# Altium schematic symbol library WE-VS.SchLib: 41 symbols
Pins are listed as number, name and electrical type; pins without a type are passive.

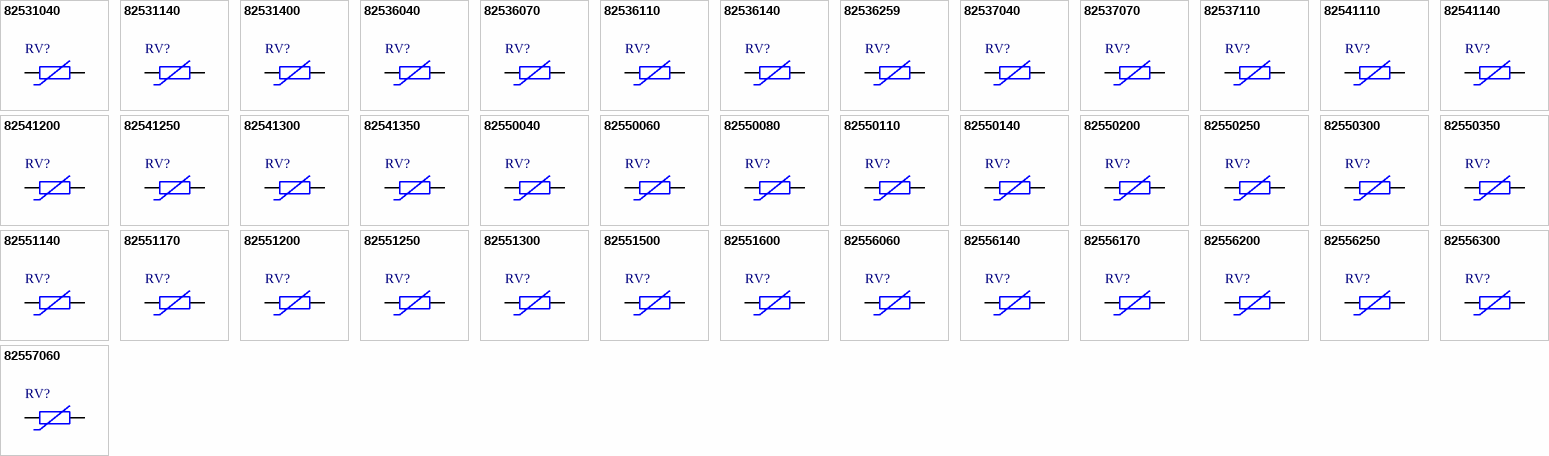
[diagram p0: symbols 82531040 to 82557060]

## 82531040
designator RV?, comment 4VAC, 5.5VDC  (value not drawn)
WE-VS SMT Varistor, size 1206, 4VAC, 5.5VDC; Manufacturer Part Number: 82531040; Manufacturer: Wurth Elektronik; Case/Size Code: 1206; Clamping Voltage: 25V; Energy Absorption: 0.3J; Operating Voltage (AC): 4V; Operating Voltage (DC): 5.5V; (Reverse) Breakdown Voltage: 8V; (Reverse) Peak Pulse Current: 150A; Category: Surge Protection; Match Code: WE-VS; ComponentLink1Description: Website Link; ComponentLink1URL: https://www.we-online.com/redexpert/article/82531040?ad; ComponentLink2Description: Datasheet Link; ComponentLink2URL: https://www.we-online.com/redexpert/spec/82531040?ad; Mount: Surface Mount; Min Operating Temperature: -40°C; Max Operating Temperature: 85°C; Packaging: Tape and Reel; Length: 3.2mm; Width: 1.6mm; Height: 1.7mm
footprint WE-VS_1206
pins: 1, 2

## 82531140
designator RV?, comment 14VAC, 16VDC  (value not drawn)
WE-VS SMT Varistor, size 1206, 14VAC, 16VDC; Manufacturer Part Number: 82531140; Manufacturer: Wurth Elektronik; Case/Size Code: 1206; Clamping Voltage: 35V; Energy Absorption: 0.4J; Operating Voltage (AC): 14V; Operating Voltage (DC): 16V; (Reverse) Breakdown Voltage: 22V; (Reverse) Peak Pulse Current: 150A; Category: Surge Protection; Match Code: WE-VS; ComponentLink1Description: Website Link; ComponentLink1URL: https://www.we-online.com/redexpert/article/82531140?ad; ComponentLink2Description: Datasheet Link; ComponentLink2URL: https://www.we-online.com/redexpert/spec/82531140?ad; Mount: Surface Mount; Min Operating Temperature: -40°C; Max Operating Temperature: 85°C; Packaging: Tape and Reel; Length: 3.2mm; Width: 1.6mm; Height: 1.7mm
footprint WE-VS_1206
pins: 1, 2

## 82531400
designator RV?, comment 40VAC, 56VDC  (value not drawn)
WE-VS SMT Varistor, size 1206, 40VAC, 56VDC; Manufacturer Part Number: 82531400; Manufacturer: Wurth Elektronik; Case/Size Code: 1206; Clamping Voltage: 110V; Energy Absorption: 1J; Operating Voltage (AC): 40V; Operating Voltage (DC): 56V; (Reverse) Breakdown Voltage: 70V; (Reverse) Peak Pulse Current: 200A; Category: Surge Protection; Match Code: WE-VS; ComponentLink1Description: Website Link; ComponentLink1URL: https://www.we-online.com/redexpert/article/82531400?ad; ComponentLink2Description: Datasheet Link; ComponentLink2URL: https://www.we-online.com/redexpert/spec/82531400?ad; Mount: Surface Mount; Min Operating Temperature: -40°C; Max Operating Temperature: 85°C; Packaging: Tape and Reel; Length: 3.2mm; Width: 1.6mm; Height: 1.7mm
footprint WE-VS_1206
pins: 1, 2

## 82536040
designator RV?, comment 4VAC, 5.5VDC  (value not drawn)
WE-VS SMT Varistor, size 0603, 4VAC, 5.5VDC; Manufacturer Part Number: 82536040; Manufacturer: Wurth Elektronik; Case/Size Code: 0603; Clamping Voltage: 21V; Energy Absorption: 0.1J; Operating Voltage (AC): 4V; Operating Voltage (DC): 5.5V; (Reverse) Breakdown Voltage: 8V; (Reverse) Peak Pulse Current: 20A; Category: Surge Protection; Match Code: WE-VS; ComponentLink1Description: Website Link; ComponentLink1URL: https://www.we-online.com/redexpert/article/82536040?ad; ComponentLink2Description: Datasheet Link; ComponentLink2URL: https://www.we-online.com/redexpert/spec/82536040?ad; Mount: Surface Mount; Min Operating Temperature: -40°C; Max Operating Temperature: 85°C; Packaging: Tape and Reel; Length: 1.6mm; Width: 0.8mm; Height: 0.8mm
footprint WE-VS_0603
pins: 1, 2

## 82536070
designator RV?, comment 6VAC, 9VDC  (value not drawn)
WE-VS SMT Varistor, size 0603, 6VAC, 9VDC; Manufacturer Part Number: 82536070; Manufacturer: Wurth Elektronik; Case/Size Code: 0603; Clamping Voltage: 30V; Energy Absorption: 0.1J; Operating Voltage (AC): 6V; Operating Voltage (DC): 9V; (Reverse) Breakdown Voltage: 13.5V; (Reverse) Peak Pulse Current: 30A; Category: Surge Protection; Match Code: WE-VS; ComponentLink1Description: Website Link; ComponentLink1URL: https://www.we-online.com/redexpert/article/82536070?ad; ComponentLink2Description: Datasheet Link; ComponentLink2URL: https://www.we-online.com/redexpert/spec/82536070?ad; Mount: Surface Mount; Min Operating Temperature: -40°C; Max Operating Temperature: 85°C; Packaging: Tape and Reel; Length: 1.6mm; Width: 0.8mm; Height: 0.8mm
footprint WE-VS_0603
pins: 1, 2

## 82536110
designator RV?, comment 11VAC, 14VDC  (value not drawn)
WE-VS SMT Varistor, size 0603, 11VAC, 14VDC; Manufacturer Part Number: 82536110; Manufacturer: Wurth Elektronik; Case/Size Code: 0603; Clamping Voltage: 38V; Energy Absorption: 0.1J; Operating Voltage (AC): 11V; Operating Voltage (DC): 14V; (Reverse) Breakdown Voltage: 18V; (Reverse) Peak Pulse Current: 30A; Category: Surge Protection; Match Code: WE-VS; ComponentLink1Description: Website Link; ComponentLink1URL: https://www.we-online.com/redexpert/article/82536110?ad; ComponentLink2Description: Datasheet Link; ComponentLink2URL: https://www.we-online.com/redexpert/spec/82536110?ad; Mount: Surface Mount; Min Operating Temperature: -40°C; Max Operating Temperature: 85°C; Packaging: Tape and Reel; Length: 1.6mm; Width: 0.8mm; Height: 0.8mm
footprint WE-VS_0603
pins: 1, 2

## 82536140
designator RV?, comment 14VAC, 18VDC  (value not drawn)
WE-VS SMT Varistor, size 0603, 14VAC, 18VDC; Manufacturer Part Number: 82536140; Manufacturer: Wurth Elektronik; Case/Size Code: 0603; Clamping Voltage: 45V; Energy Absorption: 0.2J; Operating Voltage (AC): 14V; Operating Voltage (DC): 18V; (Reverse) Breakdown Voltage: 25V; (Reverse) Peak Pulse Current: 30A; Category: Surge Protection; Match Code: WE-VS; ComponentLink1Description: Website Link; ComponentLink1URL: https://www.we-online.com/redexpert/article/82536140?ad; ComponentLink2Description: Datasheet Link; ComponentLink2URL: https://www.we-online.com/redexpert/spec/82536140?ad; Mount: Surface Mount; Min Operating Temperature: -40°C; Max Operating Temperature: 85°C; Packaging: Tape and Reel; Length: 1.6mm; Width: 0.8mm; Height: 0.8mm
footprint WE-VS_0603
pins: 1, 2

## 82536259
designator RV?, comment 2.5VAC, 3.3VDC  (value not drawn)
WE-VS SMT Varistor, size 0603, 2.5VAC, 3.3VDC; Manufacturer Part Number: 82536259; Manufacturer: Wurth Elektronik; Case/Size Code: 0603; Clamping Voltage: 13V; Energy Absorption: 0.1J; Operating Voltage (AC): 2.5V; Operating Voltage (DC): 3.3V; (Reverse) Breakdown Voltage: 5.5V; (Reverse) Peak Pulse Current: 30A; Category: Surge Protection; Match Code: WE-VS; ComponentLink1Description: Website Link; ComponentLink1URL: https://www.we-online.com/redexpert/article/82536259?ad; ComponentLink2Description: Datasheet Link; ComponentLink2URL: https://www.we-online.com/redexpert/spec/82536259?ad; Mount: Surface Mount; Min Operating Temperature: -40°C; Max Operating Temperature: 85°C; Packaging: Tape and Reel; Length: 1.6mm; Width: 0.8mm; Height: 0.8mm
footprint WE-VS_0603
pins: 1, 2

## 82537040
designator RV?, comment 4VAC, 5.5VDC  (value not drawn)
WE-VS SMT Varistor, size 0402, 4VAC, 5.5VDC; Manufacturer Part Number: 82537040; Manufacturer: Wurth Elektronik; Case/Size Code: 0402; Clamping Voltage: 21V; Energy Absorption: 0.04J; Operating Voltage (AC): 4V; Operating Voltage (DC): 5.5V; (Reverse) Breakdown Voltage: 8V; (Reverse) Peak Pulse Current: 20A; Category: Surge Protection; Match Code: WE-VS; ComponentLink1Description: Website Link; ComponentLink1URL: https://www.we-online.com/redexpert/article/82537040?ad; ComponentLink2Description: Datasheet Link; ComponentLink2URL: https://www.we-online.com/redexpert/spec/82537040?ad; Mount: Surface Mount; Min Operating Temperature: -40°C; Max Operating Temperature: 85°C; Packaging: Tape and Reel; Length: 0.96mm; Width: 0.5mm; Height: 0.48mm
footprint WE-VS_0402
pins: 1, 2

## 82537070
designator RV?, comment 8VAC, 11VDC  (value not drawn)
WE-VS SMT Varistor, size 0402, 8VAC, 11VDC; Manufacturer Part Number: 82537070; Manufacturer: Wurth Elektronik; Case/Size Code: 0402; Clamping Voltage: 35V; Energy Absorption: 0.05J; Operating Voltage (AC): 8V; Operating Voltage (DC): 11V; (Reverse) Breakdown Voltage: 12.5V; (Reverse) Peak Pulse Current: 20A; Category: Surge Protection; Match Code: WE-VS; ComponentLink1Description: Website Link; ComponentLink1URL: https://www.we-online.com/redexpert/article/82537070?ad; ComponentLink2Description: Datasheet Link; ComponentLink2URL: https://www.we-online.com/redexpert/spec/82537070?ad; Mount: Surface Mount; Min Operating Temperature: -40°C; Max Operating Temperature: 85°C; Packaging: Tape and Reel; Length: 0.96mm; Width: 0.5mm; Height: 0.48mm
footprint WE-VS_0402
pins: 1, 2

## 82537110
designator RV?, comment 11VAC, 14VDC  (value not drawn)
WE-VS SMT Varistor, size 0402, 11VAC, 14VDC; Manufacturer Part Number: 82537110; Manufacturer: Wurth Elektronik; Case/Size Code: 0402; Clamping Voltage: 44V; Energy Absorption: 0.02J; Operating Voltage (AC): 11V; Operating Voltage (DC): 14V; (Reverse) Breakdown Voltage: 18V; (Reverse) Peak Pulse Current: 10A; Category: Surge Protection; Match Code: WE-VS; ComponentLink1Description: Website Link; ComponentLink1URL: https://www.we-online.com/redexpert/article/82537110?ad; ComponentLink2Description: Datasheet Link; ComponentLink2URL: https://www.we-online.com/redexpert/spec/82537110?ad; Mount: Surface Mount; Min Operating Temperature: -40°C; Max Operating Temperature: 85°C; Packaging: Tape and Reel; Length: 0.96mm; Width: 0.5mm; Height: 0.48mm
footprint WE-VS_0402
pins: 1, 2

## 82541110
designator RV?, comment 11VAC, 14VDC  (value not drawn)
WE-VS SMT Varistor, size 1206, 11VAC, 14VDC; Manufacturer Part Number: 82541110; Manufacturer: Wurth Elektronik; Case/Size Code: 1206; Clamping Voltage: 36V; Energy Absorption: 0.5J; Operating Voltage (AC): 11V; Operating Voltage (DC): 14V; (Reverse) Breakdown Voltage: 18V; (Reverse) Peak Pulse Current: 200A; Category: Surge Protection; Match Code: WE-VS; ComponentLink1Description: Website Link; ComponentLink1URL: https://www.we-online.com/redexpert/article/82541110?ad; ComponentLink2Description: Datasheet Link; ComponentLink2URL: https://www.we-online.com/redexpert/spec/82541110?ad; Mount: Surface Mount; Min Operating Temperature: -40°C; Max Operating Temperature: 85°C; Packaging: Tape and Reel; Length: 3.2mm; Width: 1.6mm; Height: 1.7mm
footprint WE-VS_1206
pins: 1, 2

## 82541140
designator RV?, comment 14VAC, 16VDC  (value not drawn)
WE-VS SMT Varistor, size 1206, 14VAC, 16VDC; Manufacturer Part Number: 82541140; Manufacturer: Wurth Elektronik; Case/Size Code: 1206; Clamping Voltage: 35V; Energy Absorption: 0.6J; Operating Voltage (AC): 14V; Operating Voltage (DC): 16V; (Reverse) Breakdown Voltage: 24V; (Reverse) Peak Pulse Current: 200A; Category: Surge Protection; Match Code: WE-VS; ComponentLink1Description: Website Link; ComponentLink1URL: https://www.we-online.com/redexpert/article/82541140?ad; ComponentLink2Description: Datasheet Link; ComponentLink2URL: https://www.we-online.com/redexpert/spec/82541140?ad; Mount: Surface Mount; Min Operating Temperature: -40°C; Max Operating Temperature: 85°C; Packaging: Tape and Reel; Length: 3.2mm; Width: 1.6mm; Height: 1.7mm
footprint WE-VS_1206
pins: 1, 2

## 82541200
designator RV?, comment 20VAC, 26VDC  (value not drawn)
WE-VS SMT Varistor, size 1206, 20VAC, 26VDC; Manufacturer Part Number: 82541200; Manufacturer: Wurth Elektronik; Case/Size Code: 1206; Clamping Voltage: 60V; Energy Absorption: 0.7J; Operating Voltage (AC): 20V; Operating Voltage (DC): 26V; (Reverse) Breakdown Voltage: 33V; (Reverse) Peak Pulse Current: 200A; Category: Surge Protection; Match Code: WE-VS; ComponentLink1Description: Website Link; ComponentLink1URL: https://www.we-online.com/redexpert/article/82541200?ad; ComponentLink2Description: Datasheet Link; ComponentLink2URL: https://www.we-online.com/redexpert/spec/82541200?ad; Mount: Surface Mount; Min Operating Temperature: -40°C; Max Operating Temperature: 85°C; Packaging: Tape and Reel; Length: 3.2mm; Width: 1.6mm; Height: 1.7mm
footprint WE-VS_1206
pins: 1, 2

## 82541250
designator RV?, comment 25VAC, 30VDC  (value not drawn)
WE-VS SMT Varistor, size 1206, 25VAC, 30VDC; Manufacturer Part Number: 82541250; Manufacturer: Wurth Elektronik; Case/Size Code: 1206; Clamping Voltage: 72V; Energy Absorption: 1J; Operating Voltage (AC): 25V; Operating Voltage (DC): 30V; (Reverse) Breakdown Voltage: 39V; (Reverse) Peak Pulse Current: 200A; Category: Surge Protection; Match Code: WE-VS; ComponentLink1Description: Website Link; ComponentLink1URL: https://www.we-online.com/redexpert/article/82541250?ad; ComponentLink2Description: Datasheet Link; ComponentLink2URL: https://www.we-online.com/redexpert/spec/82541250?ad; Mount: Surface Mount; Min Operating Temperature: -40°C; Max Operating Temperature: 85°C; Packaging: Tape and Reel; Length: 3.2mm; Width: 1.6mm; Height: 1.7mm
footprint WE-VS_1206
pins: 1, 2

## 82541300
designator RV?, comment 30VAC, 38VDC  (value not drawn)
WE-VS SMT Varistor, size 1206, 30VAC, 38VDC; Manufacturer Part Number: 82541300; Manufacturer: Wurth Elektronik; Case/Size Code: 1206; Clamping Voltage: 85V; Energy Absorption: 1.1J; Operating Voltage (AC): 30V; Operating Voltage (DC): 38V; (Reverse) Breakdown Voltage: 47V; (Reverse) Peak Pulse Current: 200A; Category: Surge Protection; Match Code: WE-VS; ComponentLink1Description: Website Link; ComponentLink1URL: https://www.we-online.com/redexpert/article/82541300?ad; ComponentLink2Description: Datasheet Link; ComponentLink2URL: https://www.we-online.com/redexpert/spec/82541300?ad; Mount: Surface Mount; Min Operating Temperature: -40°C; Max Operating Temperature: 85°C; Packaging: Tape and Reel; Length: 3.2mm; Width: 1.6mm; Height: 1.7mm
footprint WE-VS_1206
pins: 1, 2

## 82541350
designator RV?, comment 35VAC, 45VDC  (value not drawn)
WE-VS SMT Varistor, size 1206, 35VAC, 45VDC; Manufacturer Part Number: 82541350; Manufacturer: Wurth Elektronik; Case/Size Code: 1206; Clamping Voltage: 108V; Energy Absorption: 1.1J; Operating Voltage (AC): 35V; Operating Voltage (DC): 45V; (Reverse) Breakdown Voltage: 56V; (Reverse) Peak Pulse Current: 200A; Category: Surge Protection; Match Code: WE-VS; ComponentLink1Description: Website Link; ComponentLink1URL: https://www.we-online.com/redexpert/article/82541350?ad; ComponentLink2Description: Datasheet Link; ComponentLink2URL: https://www.we-online.com/redexpert/spec/82541350?ad; Mount: Surface Mount; Min Operating Temperature: -40°C; Max Operating Temperature: 85°C; Packaging: Tape and Reel; Length: 3.2mm; Width: 1.6mm; Height: 1.7mm
footprint WE-VS_1206
pins: 1, 2

## 82550040
designator RV?, comment 4VAC, 5.5VDC  (value not drawn)
WE-VS SMT Varistor, size 0805, 4VAC, 5.5VDC; Manufacturer Part Number: 82550040; Manufacturer: Wurth Elektronik; Case/Size Code: 0805; Clamping Voltage: 22V; Energy Absorption: 0.1J; Operating Voltage (AC): 4V; Operating Voltage (DC): 5.5V; (Reverse) Breakdown Voltage: 8V; (Reverse) Peak Pulse Current: 80A; Category: Surge Protection; Match Code: WE-VS; ComponentLink1Description: Website Link; ComponentLink1URL: https://www.we-online.com/redexpert/article/82550040?ad; ComponentLink2Description: Datasheet Link; ComponentLink2URL: https://www.we-online.com/redexpert/spec/82550040?ad; Mount: Surface Mount; Min Operating Temperature: -40°C; Max Operating Temperature: 85°C; Packaging: Tape and Reel; Length: 2mm; Width: 1.25mm; Height: 0.9mm
footprint WE-VS_0805
pins: 1, 2

## 82550060
designator RV?, comment 6VAC, 9VDC  (value not drawn)
WE-VS SMT Varistor, size 0805, 6VAC, 9VDC; Manufacturer Part Number: 82550060; Manufacturer: Wurth Elektronik; Case/Size Code: 0805; Clamping Voltage: 30V; Energy Absorption: 0.2J; Operating Voltage (AC): 6V; Operating Voltage (DC): 9V; (Reverse) Breakdown Voltage: 12V; (Reverse) Peak Pulse Current: 80A; Category: Surge Protection; Match Code: WE-VS; ComponentLink1Description: Website Link; ComponentLink1URL: https://www.we-online.com/redexpert/article/82550060?ad; ComponentLink2Description: Datasheet Link; ComponentLink2URL: https://www.we-online.com/redexpert/spec/82550060?ad; Mount: Surface Mount; Min Operating Temperature: -40°C; Max Operating Temperature: 85°C; Packaging: Tape and Reel; Length: 2mm; Width: 1.25mm; Height: 0.9mm
footprint WE-VS_0805
pins: 1, 2

## 82550080
designator RV?, comment 8VAC, 11VDC  (value not drawn)
WE-VS SMT Varistor, size 0805, 8VAC, 11VDC; Manufacturer Part Number: 82550080; Manufacturer: Wurth Elektronik; Case/Size Code: 0805; Clamping Voltage: 45V; Energy Absorption: 0.3J; Operating Voltage (AC): 8V; Operating Voltage (DC): 11V; (Reverse) Breakdown Voltage: 15V; (Reverse) Peak Pulse Current: 100A; Category: Surge Protection; Match Code: WE-VS; ComponentLink1Description: Website Link; ComponentLink1URL: https://www.we-online.com/redexpert/article/82550080?ad; ComponentLink2Description: Datasheet Link; ComponentLink2URL: https://www.we-online.com/redexpert/spec/82550080?ad; Mount: Surface Mount; Min Operating Temperature: -40°C; Max Operating Temperature: 85°C; Packaging: Tape and Reel; Length: 2mm; Width: 1.25mm; Height: 0.9mm
footprint WE-VS_0805
pins: 1, 2

## 82550110
designator RV?, comment 11VAC, 14VDC  (value not drawn)
WE-VS SMT Varistor, size 0805, 11VAC, 14VDC; Manufacturer Part Number: 82550110; Manufacturer: Wurth Elektronik; Case/Size Code: 0805; Clamping Voltage: 38V; Energy Absorption: 0.1J; Operating Voltage (AC): 11V; Operating Voltage (DC): 14V; (Reverse) Breakdown Voltage: 18V; (Reverse) Peak Pulse Current: 100A; Category: Surge Protection; Match Code: WE-VS; ComponentLink1Description: Website Link; ComponentLink1URL: https://www.we-online.com/redexpert/article/82550110?ad; ComponentLink2Description: Datasheet Link; ComponentLink2URL: https://www.we-online.com/redexpert/spec/82550110?ad; Mount: Surface Mount; Min Operating Temperature: -40°C; Max Operating Temperature: 85°C; Packaging: Tape and Reel; Length: 2mm; Width: 1.25mm; Height: 0.9mm
footprint WE-VS_0805
pins: 1, 2

## 82550140
designator RV?, comment 14VAC, 18VDC  (value not drawn)
WE-VS SMT Varistor, size 0805, 14VAC, 18VDC; Manufacturer Part Number: 82550140; Manufacturer: Wurth Elektronik; Case/Size Code: 0805; Clamping Voltage: 44V; Energy Absorption: 0.3J; Operating Voltage (AC): 14V; Operating Voltage (DC): 18V; (Reverse) Breakdown Voltage: 24V; (Reverse) Peak Pulse Current: 120A; Category: Surge Protection; Match Code: WE-VS; ComponentLink1Description: Website Link; ComponentLink1URL: https://www.we-online.com/redexpert/article/82550140?ad; ComponentLink2Description: Datasheet Link; ComponentLink2URL: https://www.we-online.com/redexpert/spec/82550140?ad; Mount: Surface Mount; Min Operating Temperature: -40°C; Max Operating Temperature: 85°C; Packaging: Tape and Reel; Length: 2mm; Width: 1.25mm; Height: 0.9mm
footprint WE-VS_0805
pins: 1, 2

## 82550200
designator RV?, comment 20VAC, 26VDC  (value not drawn)
WE-VS SMT Varistor, size 0805, 20VAC, 26VDC; Manufacturer Part Number: 82550200; Manufacturer: Wurth Elektronik; Case/Size Code: 0805; Clamping Voltage: 54V; Energy Absorption: 0.4J; Operating Voltage (AC): 20V; Operating Voltage (DC): 26V; (Reverse) Breakdown Voltage: 33V; (Reverse) Peak Pulse Current: 100A; Category: Surge Protection; Match Code: WE-VS; ComponentLink1Description: Website Link; ComponentLink1URL: https://www.we-online.com/redexpert/article/82550200?ad; ComponentLink2Description: Datasheet Link; ComponentLink2URL: https://www.we-online.com/redexpert/spec/82550200?ad; Mount: Surface Mount; Min Operating Temperature: -40°C; Max Operating Temperature: 85°C; Packaging: Tape and Reel; Length: 2mm; Width: 1.25mm; Height: 0.9mm
footprint WE-VS_0805
pins: 1, 2

## 82550250
designator RV?, comment 25VAC, 30VDC  (value not drawn)
WE-VS SMT Varistor, size 0805, 25VAC, 30VDC; Manufacturer Part Number: 82550250; Manufacturer: Wurth Elektronik; Case/Size Code: 0805; Clamping Voltage: 71V; Energy Absorption: 0.3J; Operating Voltage (AC): 25V; Operating Voltage (DC): 30V; (Reverse) Breakdown Voltage: 39V; (Reverse) Peak Pulse Current: 100A; Category: Surge Protection; Match Code: WE-VS; ComponentLink1Description: Website Link; ComponentLink1URL: https://www.we-online.com/redexpert/article/82550250?ad; ComponentLink2Description: Datasheet Link; ComponentLink2URL: https://www.we-online.com/redexpert/spec/82550250?ad; Mount: Surface Mount; Min Operating Temperature: -40°C; Max Operating Temperature: 85°C; Packaging: Tape and Reel; Length: 2mm; Width: 1.25mm; Height: 0.9mm
footprint WE-VS_0805
pins: 1, 2

## 82550300
designator RV?, comment 30VAC, 38VDC  (value not drawn)
WE-VS SMT Varistor, size 0805, 30VAC, 38VDC; Manufacturer Part Number: 82550300; Manufacturer: Wurth Elektronik; Case/Size Code: 0805; Clamping Voltage: 81V; Energy Absorption: 0.3J; Operating Voltage (AC): 30V; Operating Voltage (DC): 38V; (Reverse) Breakdown Voltage: 47V; (Reverse) Peak Pulse Current: 100A; Category: Surge Protection; Match Code: WE-VS; ComponentLink1Description: Website Link; ComponentLink1URL: https://www.we-online.com/redexpert/article/82550300?ad; ComponentLink2Description: Datasheet Link; ComponentLink2URL: https://www.we-online.com/redexpert/spec/82550300?ad; Mount: Surface Mount; Min Operating Temperature: -40°C; Max Operating Temperature: 85°C; Packaging: Tape and Reel; Length: 2mm; Width: 1.25mm; Height: 0.9mm
footprint WE-VS_0805
pins: 1, 2

## 82550350
designator RV?, comment 35VAC, 45VDC  (value not drawn)
WE-VS SMT Varistor, size 0805, 35VAC, 45VDC; Manufacturer Part Number: 82550350; Manufacturer: Wurth Elektronik; Case/Size Code: 0805; Clamping Voltage: 90V; Energy Absorption: 0.1J; Operating Voltage (AC): 35V; Operating Voltage (DC): 45V; (Reverse) Breakdown Voltage: 56V; (Reverse) Peak Pulse Current: 80A; Category: Surge Protection; Match Code: WE-VS; ComponentLink1Description: Website Link; ComponentLink1URL: https://www.we-online.com/redexpert/article/82550350?ad; ComponentLink2Description: Datasheet Link; ComponentLink2URL: https://www.we-online.com/redexpert/spec/82550350?ad; Mount: Surface Mount; Min Operating Temperature: -40°C; Max Operating Temperature: 85°C; Packaging: Tape and Reel; Length: 2mm; Width: 1.25mm; Height: 0.9mm
footprint WE-VS_0805
pins: 1, 2

## 82551140
designator RV?, comment 14VAC, 16VDC  (value not drawn)
WE-VS SMT Varistor, size 1206, 14VAC, 16VDC; Manufacturer Part Number: 82551140; Manufacturer: Wurth Elektronik; Case/Size Code: 1206; Clamping Voltage: 35V; Energy Absorption: 0.4J; Operating Voltage (AC): 14V; Operating Voltage (DC): 16V; (Reverse) Breakdown Voltage: 24V; (Reverse) Peak Pulse Current: 150A; Category: Surge Protection; Match Code: WE-VS; ComponentLink1Description: Website Link; ComponentLink1URL: https://www.we-online.com/redexpert/article/82551140?ad; ComponentLink2Description: Datasheet Link; ComponentLink2URL: https://www.we-online.com/redexpert/spec/82551140?ad; Mount: Surface Mount; Min Operating Temperature: -40°C; Max Operating Temperature: 85°C; Packaging: Tape and Reel; Length: 3.2mm; Width: 1.6mm; Height: 1.7mm
footprint WE-VS_1206
pins: 1, 2

## 82551170
designator RV?, comment 17VAC, 22VDC  (value not drawn)
WE-VS SMT Varistor, size 1206, 17VAC, 22VDC; Manufacturer Part Number: 82551170; Manufacturer: Wurth Elektronik; Case/Size Code: 1206; Clamping Voltage: 48V; Energy Absorption: 0.3J; Operating Voltage (AC): 17V; Operating Voltage (DC): 22V; (Reverse) Breakdown Voltage: 27V; (Reverse) Peak Pulse Current: 200A; Category: Surge Protection; Match Code: WE-VS; ComponentLink1Description: Website Link; ComponentLink1URL: https://www.we-online.com/redexpert/article/82551170?ad; ComponentLink2Description: Datasheet Link; ComponentLink2URL: https://www.we-online.com/redexpert/spec/82551170?ad; Mount: Surface Mount; Min Operating Temperature: -40°C; Max Operating Temperature: 85°C; Packaging: Tape and Reel; Length: 3.2mm; Width: 1.6mm; Height: 1.7mm
footprint WE-VS_1206
pins: 1, 2

## 82551200
designator RV?, comment 20VAC, 26VDC  (value not drawn)
WE-VS SMT Varistor, size 1206, 20VAC, 26VDC; Manufacturer Part Number: 82551200; Manufacturer: Wurth Elektronik; Case/Size Code: 1206; Clamping Voltage: 54V; Energy Absorption: 0.5J; Operating Voltage (AC): 20V; Operating Voltage (DC): 26V; (Reverse) Breakdown Voltage: 33V; (Reverse) Peak Pulse Current: 100A; Category: Surge Protection; Match Code: WE-VS; ComponentLink1Description: Website Link; ComponentLink1URL: https://www.we-online.com/redexpert/article/82551200?ad; ComponentLink2Description: Datasheet Link; ComponentLink2URL: https://www.we-online.com/redexpert/spec/82551200?ad; Mount: Surface Mount; Min Operating Temperature: -40°C; Max Operating Temperature: 85°C; Packaging: Tape and Reel; Length: 3.2mm; Width: 1.6mm; Height: 1.7mm
footprint WE-VS_1206
pins: 1, 2

## 82551250
designator RV?, comment 25VAC, 30VDC  (value not drawn)
WE-VS SMT Varistor, size 1206, 25VAC, 30VDC; Manufacturer Part Number: 82551250; Manufacturer: Wurth Elektronik; Case/Size Code: 1206; Clamping Voltage: 65V; Energy Absorption: 0.6J; Operating Voltage (AC): 25V; Operating Voltage (DC): 30V; (Reverse) Breakdown Voltage: 39V; (Reverse) Peak Pulse Current: 100A; Category: Surge Protection; Match Code: WE-VS; ComponentLink1Description: Website Link; ComponentLink1URL: https://www.we-online.com/redexpert/article/82551250?ad; ComponentLink2Description: Datasheet Link; ComponentLink2URL: https://www.we-online.com/redexpert/spec/82551250?ad; Mount: Surface Mount; Min Operating Temperature: -40°C; Max Operating Temperature: 85°C; Packaging: Tape and Reel; Length: 3.2mm; Width: 1.6mm; Height: 1.7mm
footprint WE-VS_1206
pins: 1, 2

## 82551300
designator RV?, comment 30VAC, 38VDC  (value not drawn)
WE-VS SMT Varistor, size 1206, 30VAC, 38VDC; Manufacturer Part Number: 82551300; Manufacturer: Wurth Elektronik; Case/Size Code: 1206; Clamping Voltage: 77V; Energy Absorption: 0.7J; Operating Voltage (AC): 30V; Operating Voltage (DC): 38V; (Reverse) Breakdown Voltage: 47V; (Reverse) Peak Pulse Current: 100A; Category: Surge Protection; Match Code: WE-VS; ComponentLink1Description: Website Link; ComponentLink1URL: https://www.we-online.com/redexpert/article/82551300?ad; ComponentLink2Description: Datasheet Link; ComponentLink2URL: https://www.we-online.com/redexpert/spec/82551300?ad; Mount: Surface Mount; Min Operating Temperature: -40°C; Max Operating Temperature: 85°C; Packaging: Tape and Reel; Length: 3.2mm; Width: 1.6mm; Height: 1.7mm
footprint WE-VS_1206
pins: 1, 2

## 82551500
designator RV?, comment 50VAC, 65VDC  (value not drawn)
WE-VS SMT Varistor, size 1206, 50VAC, 65VDC; Manufacturer Part Number: 82551500; Manufacturer: Wurth Elektronik; Case/Size Code: 1206; Clamping Voltage: 135V; Energy Absorption: 0.5J; Operating Voltage (AC): 50V; Operating Voltage (DC): 65V; (Reverse) Breakdown Voltage: 82V; (Reverse) Peak Pulse Current: 100A; Category: Surge Protection; Match Code: WE-VS; ComponentLink1Description: Website Link; ComponentLink1URL: https://www.we-online.com/redexpert/article/82551500?ad; ComponentLink2Description: Datasheet Link; ComponentLink2URL: https://www.we-online.com/redexpert/spec/82551500?ad; Mount: Surface Mount; Min Operating Temperature: -40°C; Max Operating Temperature: 85°C; Packaging: Tape and Reel; Length: 3.2mm; Width: 1.6mm; Height: 1.7mm
footprint WE-VS_1206
pins: 1, 2

## 82551600
designator RV?, comment 60VAC, 85VDC  (value not drawn)
WE-VS SMT Varistor, size 1206, 60VAC, 85VDC; Manufacturer Part Number: 82551600; Manufacturer: Wurth Elektronik; Case/Size Code: 1206; Clamping Voltage: 104V; Energy Absorption: 0.7J; Operating Voltage (AC): 60V; Operating Voltage (DC): 85V; (Reverse) Breakdown Voltage: 100V; (Reverse) Peak Pulse Current: 100A; Category: Surge Protection; Match Code: WE-VS; ComponentLink1Description: Website Link; ComponentLink1URL: https://www.we-online.com/redexpert/article/82551600?ad; ComponentLink2Description: Datasheet Link; ComponentLink2URL: https://www.we-online.com/redexpert/spec/82551600?ad; Mount: Surface Mount; Min Operating Temperature: -40°C; Max Operating Temperature: 85°C; Packaging: Tape and Reel; Length: 3.2mm; Width: 1.6mm; Height: 1.7mm
footprint WE-VS_1206
pins: 1, 2

## 82556060
designator RV?, comment 6VAC, 9VDC  (value not drawn)
WE-VS SMT Varistor, size 0603, 6VAC, 9VDC; Manufacturer Part Number: 82556060; Manufacturer: Wurth Elektronik; Case/Size Code: 0603; Clamping Voltage: 32V; Energy Absorption: 0.05J; Operating Voltage (AC): 6V; Operating Voltage (DC): 9V; (Reverse) Breakdown Voltage: 12V; (Reverse) Peak Pulse Current: 20A; Category: Surge Protection; Match Code: WE-VS; ComponentLink1Description: Website Link; ComponentLink1URL: https://www.we-online.com/redexpert/article/82556060?ad; ComponentLink2Description: Datasheet Link; ComponentLink2URL: https://www.we-online.com/redexpert/spec/82556060?ad; Mount: Surface Mount; Min Operating Temperature: -40°C; Max Operating Temperature: 85°C; Packaging: Tape and Reel; Length: 1.6mm; Width: 0.8mm; Height: 0.8mm
footprint WE-VS_0603
pins: 1, 2

## 82556140
designator RV?, comment 14VAC, 18VDC  (value not drawn)
WE-VS SMT Varistor, size 0603, 14VAC, 18VDC; Manufacturer Part Number: 82556140; Manufacturer: Wurth Elektronik; Case/Size Code: 0603; Clamping Voltage: 40V; Energy Absorption: 0.2J; Operating Voltage (AC): 14V; Operating Voltage (DC): 18V; (Reverse) Breakdown Voltage: 24V; (Reverse) Peak Pulse Current: 30A; Category: Surge Protection; Match Code: WE-VS; ComponentLink1Description: Website Link; ComponentLink1URL: https://www.we-online.com/redexpert/article/82556140?ad; ComponentLink2Description: Datasheet Link; ComponentLink2URL: https://www.we-online.com/redexpert/spec/82556140?ad; Mount: Surface Mount; Min Operating Temperature: -40°C; Max Operating Temperature: 85°C; Packaging: Tape and Reel; Length: 1.6mm; Width: 0.8mm; Height: 0.8mm
footprint WE-VS_0603
pins: 1, 2

## 82556170
designator RV?, comment 17VAC, 22VDC  (value not drawn)
WE-VS SMT Varistor, size 0603, 17VAC, 22VDC; Manufacturer Part Number: 82556170; Manufacturer: Wurth Elektronik; Case/Size Code: 0603; Clamping Voltage: 54V; Energy Absorption: 0.2J; Operating Voltage (AC): 17V; Operating Voltage (DC): 22V; (Reverse) Breakdown Voltage: 27V; (Reverse) Peak Pulse Current: 30A; Category: Surge Protection; Match Code: WE-VS; ComponentLink1Description: Website Link; ComponentLink1URL: https://www.we-online.com/redexpert/article/82556170?ad; ComponentLink2Description: Datasheet Link; ComponentLink2URL: https://www.we-online.com/redexpert/spec/82556170?ad; Mount: Surface Mount; Min Operating Temperature: -40°C; Max Operating Temperature: 85°C; Packaging: Tape and Reel; Length: 1.6mm; Width: 0.8mm; Height: 0.8mm
footprint WE-VS_0603
pins: 1, 2

## 82556200
designator RV?, comment 20VAC, 26VDC  (value not drawn)
WE-VS SMT Varistor, size 0603, 20VAC, 26VDC; Manufacturer Part Number: 82556200; Manufacturer: Wurth Elektronik; Case/Size Code: 0603; Clamping Voltage: 67V; Energy Absorption: 0.1J; Operating Voltage (AC): 20V; Operating Voltage (DC): 26V; (Reverse) Breakdown Voltage: 33V; (Reverse) Peak Pulse Current: 30A; Category: Surge Protection; Match Code: WE-VS; ComponentLink1Description: Website Link; ComponentLink1URL: https://www.we-online.com/redexpert/article/82556200?ad; ComponentLink2Description: Datasheet Link; ComponentLink2URL: https://www.we-online.com/redexpert/spec/82556200?ad; Mount: Surface Mount; Min Operating Temperature: -40°C; Max Operating Temperature: 85°C; Packaging: Tape and Reel; Length: 1.6mm; Width: 0.8mm; Height: 0.8mm
footprint WE-VS_0603
pins: 1, 2

## 82556250
designator RV?, comment 25VAC, 30VDC  (value not drawn)
WE-VS SMT Varistor, size 0603, 25VAC, 30VDC; Manufacturer Part Number: 82556250; Manufacturer: Wurth Elektronik; Case/Size Code: 0603; Clamping Voltage: 71V; Energy Absorption: 0.2J; Operating Voltage (AC): 25V; Operating Voltage (DC): 30V; (Reverse) Breakdown Voltage: 39V; (Reverse) Peak Pulse Current: 30A; Category: Surge Protection; Match Code: WE-VS; ComponentLink1Description: Website Link; ComponentLink1URL: https://www.we-online.com/redexpert/article/82556250?ad; ComponentLink2Description: Datasheet Link; ComponentLink2URL: https://www.we-online.com/redexpert/spec/82556250?ad; Mount: Surface Mount; Min Operating Temperature: -40°C; Max Operating Temperature: 85°C; Packaging: Tape and Reel; Length: 1.6mm; Width: 0.8mm; Height: 0.8mm
footprint WE-VS_0603
pins: 1, 2

## 82556300
designator RV?, comment 30VAC, 38VDC  (value not drawn)
WE-VS SMT Varistor, size 0603, 30VAC, 38VDC; Manufacturer Part Number: 82556300; Manufacturer: Wurth Elektronik; Case/Size Code: 0603; Clamping Voltage: 77V; Energy Absorption: 0.1J; Operating Voltage (AC): 30V; Operating Voltage (DC): 38V; (Reverse) Breakdown Voltage: 47V; (Reverse) Peak Pulse Current: 30A; Category: Surge Protection; Match Code: WE-VS; ComponentLink1Description: Website Link; ComponentLink1URL: https://www.we-online.com/redexpert/article/82556300?ad; ComponentLink2Description: Datasheet Link; ComponentLink2URL: https://www.we-online.com/redexpert/spec/82556300?ad; Mount: Surface Mount; Min Operating Temperature: -40°C; Max Operating Temperature: 85°C; Packaging: Tape and Reel; Length: 1.6mm; Width: 0.8mm; Height: 0.8mm
footprint WE-VS_0603
pins: 1, 2

## 82557060
designator RV?, comment 6VAC, 9VDC  (value not drawn)
WE-VS SMT Varistor, size 0402, 6VAC, 9VDC; Manufacturer Part Number: 82557060; Manufacturer: Wurth Elektronik; Case/Size Code: 0402; Clamping Voltage: 32V; Energy Absorption: 0.05J; Operating Voltage (AC): 6V; Operating Voltage (DC): 9V; (Reverse) Breakdown Voltage: 12V; (Reverse) Peak Pulse Current: 20A; Category: Surge Protection; Match Code: WE-VS; ComponentLink1Description: Website Link; ComponentLink1URL: https://www.we-online.com/redexpert/article/82557060?ad; ComponentLink2Description: Datasheet Link; ComponentLink2URL: https://www.we-online.com/redexpert/spec/82557060?ad; Mount: Surface Mount; Min Operating Temperature: -40°C; Max Operating Temperature: 85°C; Packaging: Tape and Reel; Length: 0.96mm; Width: 0.5mm; Height: 0.48mm
footprint WE-VS_0402
pins: 1, 2

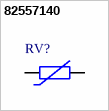
[diagram p1: symbol 82557140]

## 82557140
designator RV?, comment 14VAC, 18VDC  (value not drawn)
WE-VS SMT Varistor, size 0402, 14VAC, 18VDC; Manufacturer Part Number: 82557140; Manufacturer: Wurth Elektronik; Case/Size Code: 0402; Clamping Voltage: 40V; Energy Absorption: 0.05J; Operating Voltage (AC): 14V; Operating Voltage (DC): 18V; (Reverse) Breakdown Voltage: 24V; (Reverse) Peak Pulse Current: 20A; Category: Surge Protection; Match Code: WE-VS; ComponentLink1Description: Website Link; ComponentLink1URL: https://www.we-online.com/redexpert/article/82557140?ad; ComponentLink2Description: Datasheet Link; ComponentLink2URL: https://www.we-online.com/redexpert/spec/82557140?ad; Mount: Surface Mount; Min Operating Temperature: -40°C; Max Operating Temperature: 85°C; Packaging: Tape and Reel; Length: 0.96mm; Width: 0.5mm; Height: 0.48mm
footprint WE-VS_0402
pins: 1, 2